# Altium schematic symbol library Indutores_SCHLIB.SchLib: 16 symbols
Pins are listed as number, name and electrical type; pins without a type are passive.

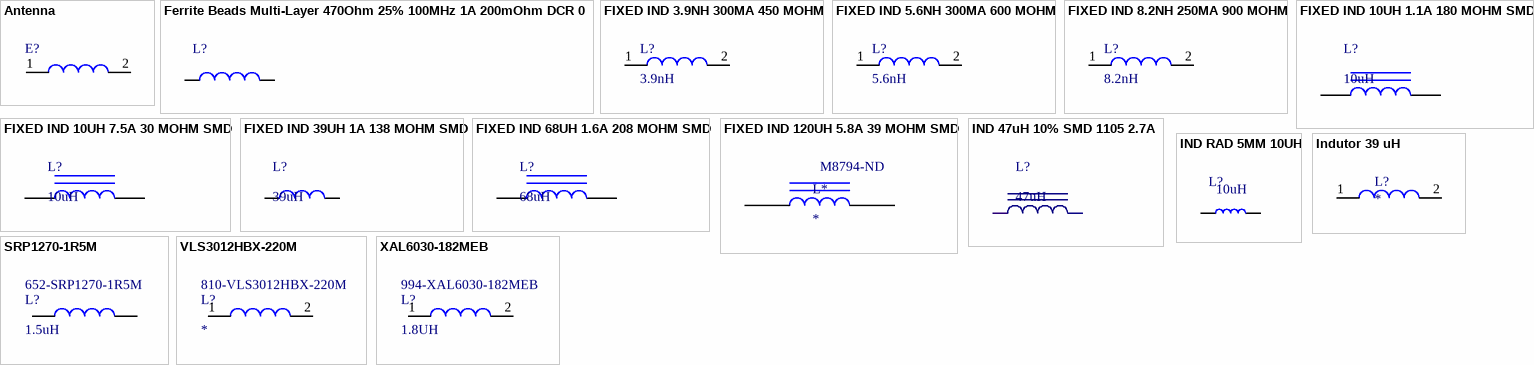
[diagram p0: symbols Antenna to XAL6030-182MEB]

## Antenna
designator E?, comment AMCA31-2R450G-S1F-T  (value not drawn)
ANTENNA CHIP DIELECTRIC 2450MHZ; Manufacturer: Abracon LLC; Frequency Group: UHF (2 GHz ~ 3 GHz); Frequency (Center/Band): 2.4GHz; Frequency Range: 2.405GHz ~ 2.495GHz; Number of Bands: 1; VSWR: 2; Gain: 0.5dBi; Power - Max: 3W; Supplier 1: Digi-Key; Manufacturer Part Number: AMCA31-2R450G-S1F-T; RoHS: RoHS Compliant; Category: RF/IF and RFID; Stock 1: 2070; Pricing 1: 1=0.48, 10=0.408, 25=0.3568, 100=0.3059, 250=0.26512, 500=0.22434 (USD); Packaging: Cut Tape (CT); Part Status: Active; Antenna Type: Chip; Return Loss: -; Features: -; Termination: Solder; Ingress Protection: -; Mounting Type: Surface Mount; Height (Max): 0.047" (1.20mm); Applications: Bluetooth, WLAN; ComponentLink1URL: http://www.abracon.com/chip-antenna/AMCA31-2R450G-S1F-T.pdf; ComponentLink1Description: http://www.abracon.com/chip-antenna/AMCA31-2R450G-S1F-T.pdf; Supplier Part Number 1: 535-12386-1-ND
pins: 1, 2

## Ferrite Beads Multi-Layer 470Ohm 25% 100MHz 1A 200mOhm DCR 0603 T/R
designator L?, comment 470R  (value not drawn)
Ferrite Beads Multi-Layer 470Ohm 25% 100MHz 1A 200mOhm DCR 0603 T/R; Manufacturer: Murata; Manufacturer Part Number: BLM18PG471SN1D; Product Training Modules: Ferrite Beads and Arrays; Catalog Drawings: BLM18 Series Top BLM18(A,B,E,H,P,R) Series Side; EDA / CAD Models: Download from Accelerated Designs; Filter Type: Power Line; Number of Lines: 1; Impedance @ Frequency: 470 Ohm @ 100MHz; Online Catalog: EMIFIL® BLM18P Series; Kits: 490-5243-ND  - KIT FERRITE CHIP BLM 0603; Other Names: 490-5223-1; Supplier 1: Digikey; Stock 1: 93205; Pricing 1: 1=0.1, 10=0.083, 50=0.0684, 100=0.0501, 250=0.0364, 500=0.0334, 1000=0.0288 (USD); Standard Package: 1; Category: Filters; Family: Ferrite Beads and Chips; Series: BLM18P; Packaging: Cut Tape (CT); Current Rating (Max): 1A; DC Resistance (DCR) (Max): 200 mOhm; Ratings: -; Operating Temperature: -55°C ~ 125°C; Package / Case: 0603 (1608 Metric); Mounting Type: Surface Mount; Height (Max): 0.037" (0.95mm); Size / Dimension: 0.063" L x 0.031" W (1.60mm x 0.80mm); ComponentLink1URL: https://datasheet.ciiva.com/11800/0900766b81275ca5-11800885.pdf; ComponentLink1Description: https://datasheet.ciiva.com/11800/0900766b81275ca5-11800885.pdf; ComponentLink2URL: https://datasheet.ciiva.com/16331/l0110s0100blm18p-16331542.pdf; ComponentLink2Description: https://datasheet.ciiva.com/16331/l0110s0100blm18p-16331542.pdf; ComponentLink3URL: https://datasheet.ciiva.com/8021/1740433-8021497.pdf; ComponentLink3Description: https://datasheet.ciiva.com/8021/1740433-8021497.pdf; ComponentLink4URL: https://datasheet.ciiva.com/6212/l0110s0100blm18p-6212506.pdf; ComponentLink4Description: https://datasheet.ciiva.com/6212/l0110s0100blm18p-6212506.pdf; ComponentLink5URL: https://datasheet.ciiva.com/8021/1740433-8021498.pdf; ComponentLink5Description: https://datasheet.ciiva.com/8021/1740433-8021498.pdf; ComponentLink6URL: https://datasheet.ciiva.com/6212/l0110s0100blm18p-6212508.pdf; ComponentLink6Description: https://datasheet.ciiva.com/6212/l0110s0100blm18p-6212508.pdf; ComponentLink7URL: https://datasheet.ciiva.com/14122/blm-series-eng-tds-14122876.pdf; ComponentLink7Description: https://datasheet.ciiva.com/14122/blm-series-eng-tds-14122876.pdf; ComponentLink8URL: https://datasheet.ciiva.com/6212/l0110s0100blm18p-6212509.pdf; ComponentLink8Description: https://datasheet.ciiva.com/6212/l0110s0100blm18p-6212509.pdf; ComponentLink9URL: https://datasheet.ciiva.com/8508/l0110s0100blm18p-8508303.pdf; ComponentLink9Description: https://datasheet.ciiva.com/8508/l0110s0100blm18p-8508303.pdf; Supplier Part Number 1: 490-5223-1-ND
footprint IND 0603 M (Chip Inductor, 2-Leads, Body 1,60x0,80mm, IPC Low Density)
pins: 1, 2

## FIXED IND 3.9NH 300MA 450 MOHM
designator L?, comment 3.9nH
FIXED IND 3.9NH 300MA 450 MOHM ->L-05B3N9SV6T; Manufacturer: Johanson Technology Inc.; Type: Multilayer; Material - Core: Ceramic; Tolerance: ±0.3nH; Shielding: Unshielded; DC Resistance (DCR): 450 mOhm Max; Q @ Freq: 4 @ 100MHz; Frequency - Self Resonant: 6.8GHz; Frequency - Test: 100MHz; Supplier 1: Digi-Key; Manufacturer Part Number: L-05B3N9SV6T; RoHS: RoHS Compliant; Category: Inductors, Coils, Chokes; Stock 1: 49053; Pricing 1: 1=0.1, 10=0.036, 25=0.0328, 50=0.0292, 100=0.0248, 250=0.02184, 500=0.02002, 1000=0.01711, 5000=0.0131 (USD); Packaging: Cut Tape (CT); Part Status: Active; Inductance: 3.9nH; Current Rating: 300mA; Current - Saturation: -; Ratings: -; Operating Temperature: -40°C ~ 100°C; Mounting Type: Surface Mount; Package / Case: 0201 (0603 Metric); Supplier Device Package: 0201 (0603 Metric); Size / Dimension: 0.024" L x 0.012" W (0.60mm x 0.30mm); Height - Seated (Max): 0.013" (0.33mm); ComponentLink1URL: http://www.johansontechnology.com/downloads/jti-cat-rf-ind.pdf; ComponentLink1Description: http://www.johansontechnology.com/downloads/jti-cat-rf-ind.pdf; Supplier Part Number 1: 712-1492-1-ND
footprint IND 0201 (0603)
pins: 1, 2

## FIXED IND 5.6NH 300MA 600 MOHM
designator L?, comment 5.6nH
FIXED IND 5.6NH 300MA 600 MOHM - L-05B5N6SV6T; Manufacturer: Johanson Technology Inc.; Type: Multilayer; Material - Core: Ceramic; Tolerance: ±0.3nH; Shielding: Unshielded; DC Resistance (DCR): 600 mOhm Max; Q @ Freq: 5 @ 100MHz; Frequency - Self Resonant: 5.5GHz; Frequency - Test: 100MHz; Supplier 1: Digi-Key; Manufacturer Part Number: L-05B5N6SV6T; RoHS: RoHS Compliant; Category: Inductors, Coils, Chokes; Stock 1: 18705; Pricing 1: 1=0.1, 10=0.036, 25=0.0328, 50=0.0292, 100=0.0248, 250=0.02184, 500=0.02002, 1000=0.01711, 5000=0.0131 (USD); Packaging: Cut Tape (CT); Part Status: Active; Inductance: 5.6nH; Current Rating: 300mA; Current - Saturation: -; Ratings: -; Operating Temperature: -40°C ~ 100°C; Mounting Type: Surface Mount; Package / Case: 0201 (0603 Metric); Supplier Device Package: 0201 (0603 Metric); Size / Dimension: 0.024" L x 0.012" W (0.60mm x 0.30mm); Height - Seated (Max): 0.013" (0.33mm); ComponentLink1URL: http://www.johansontechnology.com/downloads/jti-cat-rf-ind.pdf; ComponentLink1Description: http://www.johansontechnology.com/downloads/jti-cat-rf-ind.pdf; Supplier Part Number 1: 712-1500-1-ND
footprint IND 0201 (0603)
pins: 1, 2

## FIXED IND 8.2NH 250MA 900 MOHM
designator L?, comment 8.2nH
FIXED IND 8.2NH 250MA 900 MOHM ->L-05B8N2JV6T; Manufacturer: Johanson Technology Inc.; Type: Multilayer; Material - Core: Ceramic; Tolerance: ±5%; Shielding: Unshielded; DC Resistance (DCR): 900 mOhm Max; Q @ Freq: 5 @ 100MHz; Frequency - Self Resonant: 4.6GHz; Frequency - Test: 100MHz; Supplier 1: Digi-Key; Manufacturer Part Number: L-05B8N2JV6T; RoHS: RoHS Compliant; Category: Inductors, Coils, Chokes; Stock 1: 13365; Pricing 1: 1=0.1, 10=0.049, 25=0.044, 50=0.039, 100=0.0331, 250=0.02924, 500=0.02678, 1000=0.02289, 5000=0.01753 (USD); Packaging: Cut Tape (CT); Part Status: Active; Inductance: 8.2nH; Current Rating: 250mA; Current - Saturation: -; Ratings: -; Operating Temperature: -40°C ~ 100°C; Mounting Type: Surface Mount; Package / Case: 0201 (0603 Metric); Supplier Device Package: 0201 (0603 Metric); Size / Dimension: 0.024" L x 0.012" W (0.60mm x 0.30mm); Height - Seated (Max): 0.013" (0.33mm); ComponentLink1URL: http://www.johansontechnology.com/downloads/jti-cat-rf-ind.pdf; ComponentLink1Description: http://www.johansontechnology.com/downloads/jti-cat-rf-ind.pdf; Supplier Part Number 1: 712-1502-1-ND
footprint IND 0201 (0603)
pins: 1, 2

## FIXED IND 10UH 1.1A 180 MOHM SMD
designator L?, comment 10uH
FIXED IND 10UH 1.1A 180 MOHM SMD; Manufacturer: Bourns Inc.; Manufacturer Part Number: SRN4012TA-100M; Type: Wirewound; Material - Core: Ferrite; Inductance: 10µH; Tolerance: ±20%; Current - Saturation: 800mA; Shielding: Unshielded; Q @ Freq: 10 @ 100kHz; Frequency - Self Resonant: 30MHz; Frequency - Test: 100kHz; Supplier 1: Digi-Key; RoHS: RoHS Compliant; Category: Inductors, Coils, Chokes; Stock 1: 500; Pricing 1: 1=0.3, 10=0.27, 25=0.24, 50=0.21, 100=0.195, 250=0.18, 500=0.171, 1000=0.138 (USD); Packaging: Cut Tape (CT); Part Status: Active; Current Rating: 1.1A; DC Resistance (DCR): 180 mOhm; Ratings: AEC-Q200; Operating Temperature: -40°C ~ 125°C; Mounting Type: Surface Mount; Package / Case: Nonstandard; Size / Dimension: 0.157" L x 0.157" W (4.00mm x 4.00mm); Height - Seated (Max): 0.047" (1.20mm); ComponentLink1URL: http://www.bourns.com/docs/Product-Datasheets/SRN4012TA.pdf; ComponentLink1Description: http://www.bourns.com/docs/Product-Datasheets/SRN4012TA.pdf; Supplier Part Number 1: SRN4012TA-100MCT-ND
footprint IND 4012
pins: 1, 2

## FIXED IND 10UH 7.5A 30 MOHM SMD
designator L?, comment 10uH
FIXED IND 10UH 7.5A 30 MOHM SMD; Manufacturer: Abracon LLC; Manufacturer Part Number: ASPI-1040HI-100M-T05; Type: Wirewound; Material - Core: Ferrite; Inductance: 10µH; Tolerance: ±20%; Current - Saturation: 8.5A; Shielding: Unshielded; DC Resistance (DCR): 30 mOhm Max; Supplier 1: Digi-Key; RoHS: RoHS Compliant; Category: Inductors, Coils, Chokes; Stock 1: 1691; Pricing 1: 1=1.04, 10=0.975, 25=0.91, 50=0.78, 100=0.741, 250=0.676 (USD); Packaging: Cut Tape (CT); Part Status: Active; Current Rating: 7.5A; Q @ Freq: -; Frequency - Self Resonant: -; Ratings: -; Operating Temperature: -55°C ~ 125°C; Frequency - Test: -; Mounting Type: Surface Mount; Package / Case: Nonstandard; Size / Dimension: 0.439" L x 0.394" W (11.15mm x 10.00mm); Height - Seated (Max): 0.157" (4.00mm); ComponentLink1URL: http://www.abracon.com/Magnetics/power/ASPI-1040HI.pdf; ComponentLink1Description: http://www.abracon.com/Magnetics/power/ASPI-1040HI.pdf; Supplier Part Number 1: ASPI-1040HI-100M-T05CT-ND
footprint IND_11.15X10MM (ASPI-1040HI-100M-T05)
pins: 1, 2

## FIXED IND 39UH 1A 138 MOHM SMD
designator L?, comment 39uH
FIXED IND 39UH 1A 138 MOHM SMD; Manufacturer: Bourns Inc.; Manufacturer Part Number: SRR6038-390Y; Type: Wirewound; Material - Core: Ferrite; Inductance: 39µH; Tolerance: ±30%; Current - Saturation: 1.1A; Shielding: Shielded; DC Resistance (DCR): 138 mOhm Max; Q @ Freq: 8.3 @ 2.52MHz; Frequency - Self Resonant: 11.8MHz; Frequency - Test: 100kHz; Supplier 1: Digi-Key; RoHS: RoHS Compliant; Category: Inductors, Coils, Chokes; Stock 1: 1468; Pricing 1: 1=0.68, 10=0.608, 25=0.57, 50=0.494, 100=0.456, 250=0.4332, 500=0.3952 (USD); Packaging: Cut Tape (CT); Current Rating: 1A; Ratings: -; Operating Temperature: -40°C ~ 125°C; Mounting Type: Surface Mount; Package / Case: Nonstandard; Size / Dimension: 0.268" L x 0.268" W (6.80mm x 6.80mm); Height - Seated (Max): 0.157" (4.00mm); ComponentLink1URL: http://www.bourns.com/docs/Product-Datasheets/SRR6038.pdf; ComponentLink1Description: http://www.bourns.com/docs/Product-Datasheets/SRR6038.pdf; Supplier Part Number 1: SRR6038-390YCT-ND
footprint IND_SRR6038 (IND_SRR6038 - 6.0x6.0x3.8mm)
pins: 1, 2

## FIXED IND 68UH 1.6A 208 MOHM SMD
designator L?, comment 68uH
FIXED IND 68UH 1.6A 208 MOHM SMD; Manufacturer: Bourns Inc.; Manufacturer Part Number: SRR1050A-680Y; Type: Wirewound; Material - Core: Ferrite; Inductance: 68µH; Tolerance: ±30%; Current - Saturation: 1.65A; Shielding: Shielded; DC Resistance (DCR): 208 mOhm Max; Frequency - Self Resonant: 5MHz; Frequency - Test: 100kHz; Supplier 1: Digi-Key; RoHS: RoHS Compliant; Category: Inductors, Coils, Chokes; Stock 1: 500; Pricing 1: 1=0.99, 10=0.93, 25=0.868, 50=0.744, 100=0.7068, 250=0.6448 (USD); Packaging: Cut Tape (CT); Part Status: Active; Current Rating: 1.6A; Q @ Freq: -; Ratings: AEC-Q200; Operating Temperature: -40°C ~ 125°C; Mounting Type: Surface Mount; Package / Case: Nonstandard; Size / Dimension: 0.402" L x 0.394" W (10.20mm x 10.00mm); Height - Seated (Max): 0.200" (5.10mm); ComponentLink1URL: http://www.bourns.com/docs/Product-Datasheets/SRR1050A.pdf; ComponentLink1Description: http://www.bourns.com/docs/Product-Datasheets/SRR1050A.pdf; Supplier Part Number 1: SRR1050A-680YCT-ND
footprint IND SRR1050 N (Precision Wire Wound Inductor, 2-Leads, Body 10,20x10,00mm, IPC Medium Density)
pins: 1, 2

## FIXED IND 120UH 5.8A 39 MOHM SMD
designator L*  Supplier Part Number 1: M8794-ND
FIXED IND 120UH 5.8A 39 MOHM SMD; Manufacturer: Bourns Inc.; Manufacturer Part Number: PM2120-121K-RC; Material - Core: Iron; Inductance: 120µH; Tolerance: ±10%; Shielding: Unshielded; DC Resistance (DCR): 39 mOhm Max; Supplier 1: Digi-Key; RoHS: RoHS Compliant; Category: Inductors, Coils, Chokes; Stock 1: 3257; Pricing 1: 1=2.4, 10=2.2, 25=2, 50=1.68, 100=1.44, 250=1.36, 500=1.33 (USD); Packaging: Bulk; Part Status: Active; Type: Toroidal; Current Rating: 5.8A; Current - Saturation: -; Q @ Freq: -; Frequency - Self Resonant: -; Ratings: -; Operating Temperature: -55°C ~ 105°C; Mounting Type: Surface Mount; Package / Case: Nonstandard; Supplier Device Package: -; Size / Dimension: 1.200" L x 1.000" W (30.50mm x 25.40mm); Height - Seated (Max): 0.870" (22.10mm); ComponentLink1URL: http://www.bourns.com/docs/Product-Datasheets/pm2120_series.pdf; ComponentLink1Description: http://www.bourns.com/docs/Product-Datasheets/pm2120_series.pdf
footprint PCBComponent_1
pins: 1, 2

## IND 47uH 10% SMD 1105 2.7A
designator L?, comment 47uH
Fixed Inductors 47uH 10% SMD 1105; Manufacturer: Bourns; Manufacturer Part Number: SDR1105-330KL; Inductance: 33 uH; Maximum DC Current: 2.6 A; Maximum DC Resistance: 100 mOhms; Type: SMD Power Inductor; Test Frequency: 1 kHz; Supplier 1: Mouser; RoHS: RoHS Compliant; Category: Fixed Inductors; Stock 1: 1158; Pricing 1: 1=0.760, 10=0.546, 100=0.504, 250=0.478, 500=0.331, 800=0.285, 2400=0.279, 4800=0.272, 9600=0.263 (USD); Height: 4.8 mm; Length: 11.1 mm; Operating Temperature Range: - 40 C to + 125 C; Packaging: Reel; Product: Power Inductors; Series: SDR1105; Termination Style: SMD/SMT; Tolerance: 10 %; Width: 10 mm; Brand: Bourns; Mounting Style: SMD/SMT; Standard Pack Qty: 800; RoHS - Mouser: Y; Minimum Order Quantity: 1; Reeling: True; ComponentLink1URL: https://br.mouser.com/ProductDetail/TDK/VLS5045EX-470M/?qs=sGAEpiMZZMsg%252by3WlYCkU0KBw808mpCYsonOduHA%2fNI%3d; ComponentLink1Description: https://br.mouser.com/ProductDetail/TDK/VLS5045EX-470M/?qs=sGAEpiMZZMsg%252by3WlYCkU0KBw808mpCYsonOduHA%2fNI%3d
footprint INDUCTOR 10X11.1X4.5mm
pins: 1, 2

## IND RAD 5MM 10UH
designator L?  Inductance: 10uH  (hidden comment: IND RAD 5MM 10UH)
Manufacturer Part Number: IMP15090; Product Range: WE-TI Series; Inductance Tolerance: ± 20%; DC Resistance Max: 0.033; RMS Current (Irms): 4; SVHC: No SVHC (17-Dec-2014); Inductor Case Style: Radial 5mm; Supplier 1: Mult Comercial; Manufacturer: -; RoHS: YES; Stock 1: 121; Pricing 1: 1=2.00 (BRL); Saturation Current (Isat): 4; Packaging: Each; DC Current Rating: 4; ComponentLink1URL: http://loja.multcomercial.com.br/indutor-radial-espacamento-5mm-10uh.html; ComponentLink1Description: http://loja.multcomercial.com.br/indutor-radial-espacamento-5mm-10uh.html; ComponentLink2URL: http://loja.multcomercial.com.br/indutor-radial-espacamento-5mm-10uh.html; ComponentLink2Description: http://loja.multcomercial.com.br/indutor-radial-espacamento-5mm-10uh.html; Supplier Part Number 1: Indutor Radial espaçamento 5mm 10uH
footprint IND RAD 5MM
pins: 1, 2

## Indutor 39 uH
designator L?
FIXED IND 39UH 1A 195 MOHM SMD; Manufacturer: Bourns; Manufacturer Part Number: SRR6028-390Y; Core Material: Ferrite; Tolerance: 30%; DC Resistance (DCR): 195mR; Saturation Current: 750mA; Shielding: Shielded; Self Resonant Frequency: 17MHz; Test Frequency: 100kHz; Q Factor: 10; Supplier 1: Arrow; Stock 1: 0; Mount: Surface Mount; Case/Package: Nonstandard; Min Operating Temperature: -40°C; Max Operating Temperature: 125°C; Inductance: 39uH; Max DC Current: 1A; Packaging: Tape and Reel; Package Quantity: 500; Current Rating: 1A; Composition: Wirewound; Termination: SMD/SMT; Length: 0.268inch; Height: 2.8mm; Width: 0.268inch; Height - Seated (Max): 0.118inch; ComponentLink1URL: http://www.bourns.com/docs/Product-Datasheets/SRR6028.pdf?src-supplier=Digi-Key; ComponentLink1Description: http://www.bourns.com/docs/Product-Datasheets/SRR6028.pdf?src-supplier=Digi-Key; ComponentLink2URL: https://www.bourns.com/docs/Product-Datasheets/SRR6028.pdf?src-supplier=Digi-Key; ComponentLink2Description: https://www.bourns.com/docs/Product-Datasheets/SRR6028.pdf?src-supplier=Digi-Key; ComponentLink3URL: http://www.bourns.com/pdfs/SRR6028.pdf?src-supplier=Avnet+Europe; ComponentLink3Description: http://www.bourns.com/pdfs/SRR6028.pdf?src-supplier=Avnet+Europe; Supplier Part Number 1: SRR6028-390Y
footprint IND (IND 4012)
pins: 1, 2

## SRP1270-1R5M
designator L?, comment 1.5uH  Supplier Part Number 1: 652-SRP1270-1R5M
Fixed Inductors 1.5uH 20% SMD 1270; Manufacturer_Name: Bourns; Manufacturer_Part_Number: SRP1270-1R5M; Datasheet Link: https://www.bourns.com/data/global/pdfs/SRP1270.pdf; Height: 7mm; ComponentLink1Description: Datasheet; ComponentLink1URL: https://www.bourns.com/data/global/pdfs/SRP1270.pdf; ComponentLink2Description: Mouser; ComponentLink2URL: https://br.mouser.com/ProductDetail/Bourns/SRP1270-1R5M?qs=%2Fha2pyFaduh%252BcDExOxFZtS%252BAL34aMFJQ8HU6pmrYoohPFGFU66sC4w%3D%3D; Supplier 1: Mouser
footprint SRP1270
pins: 1, 2

## VLS3012HBX-220M
designator L?  Supplier Part Number 1: 810-VLS3012HBX-220M
Inductor; Manufacturer_Name: TDK; Manufacturer_Part_Number: VLS3012HBX-220M; Datasheet Link: https://product.tdk.com/info/en/catalog/datasheets/inductor_commercial_power_vls3012hbx_en.pdf; Mouser Part Number: 810-VLS3012HBX-220M; Mouser Price/Stock: https://www.mouser.com/Search/Refine.aspx?Keyword=810-VLS3012HBX-220M; RS Part Number: 1815185; RS Price/Stock: http://uk.rs-online.com/web/p/products/1815185; Supplier 1: Mouser; ComponentLink1Description: Datasheet; ComponentLink1URL: https://br.mouser.com/datasheet/2/400/nductor_commercial_power_vls3012hbx_en-1125575.pdf
footprint VLS3012
pins: 1, 2

## XAL6030-182MEB
designator L?, comment 1.8UH  Supplier Part Number 1: 994-XAL6030-182MEB
Inductor; Manufacturer_Name: COILCRAFT; Manufacturer_Part_Number: XAL6030-182MEB; Datasheet Link: https://www.coilcraft.com/pdfs/xal60xx.pdf; Height: 3.1mm; Mouser Part Number: 994-XAL6030-182MEB; Mouser Price/Stock: https://www.mouser.com/Search/Refine.aspx?Keyword=994-XAL6030-182MEB; ComponentLink1Description: https://br.mouser.com/ProductDetail/Coilcraft/XAL6030-182MEB?qs=VJjuEbE9QBNl9%2F4O4ZhQvg%3D%3D; ComponentLink1URL: https://br.mouser.com/ProductDetail/Coilcraft/XAL6030-182MEB?qs=VJjuEbE9QBNl9%2F4O4ZhQvg%3D%3D; ComponentLink2Description: http://www.coilcraft.com/pdfs/xal60xx.pdf; ComponentLink2URL: http://www.coilcraft.com/pdfs/xal60xx.pdf; Supplier 1: Mouser
footprint XAL6030182MEB
pins: 1, 2